# Altium footprint library 常用元件.PcbLib: 186 footprints (part 3 of 12)
Each footprint in its own frame and in the unit in brackets; x right, y up, seen from the top. Pads: shape width x height; smd on the part's side, far side on the other; paste and mask are expansions set on the pad; w line width, h text height; cw(c..) or ccw(c..) is an arc to the next point about the centre after c.
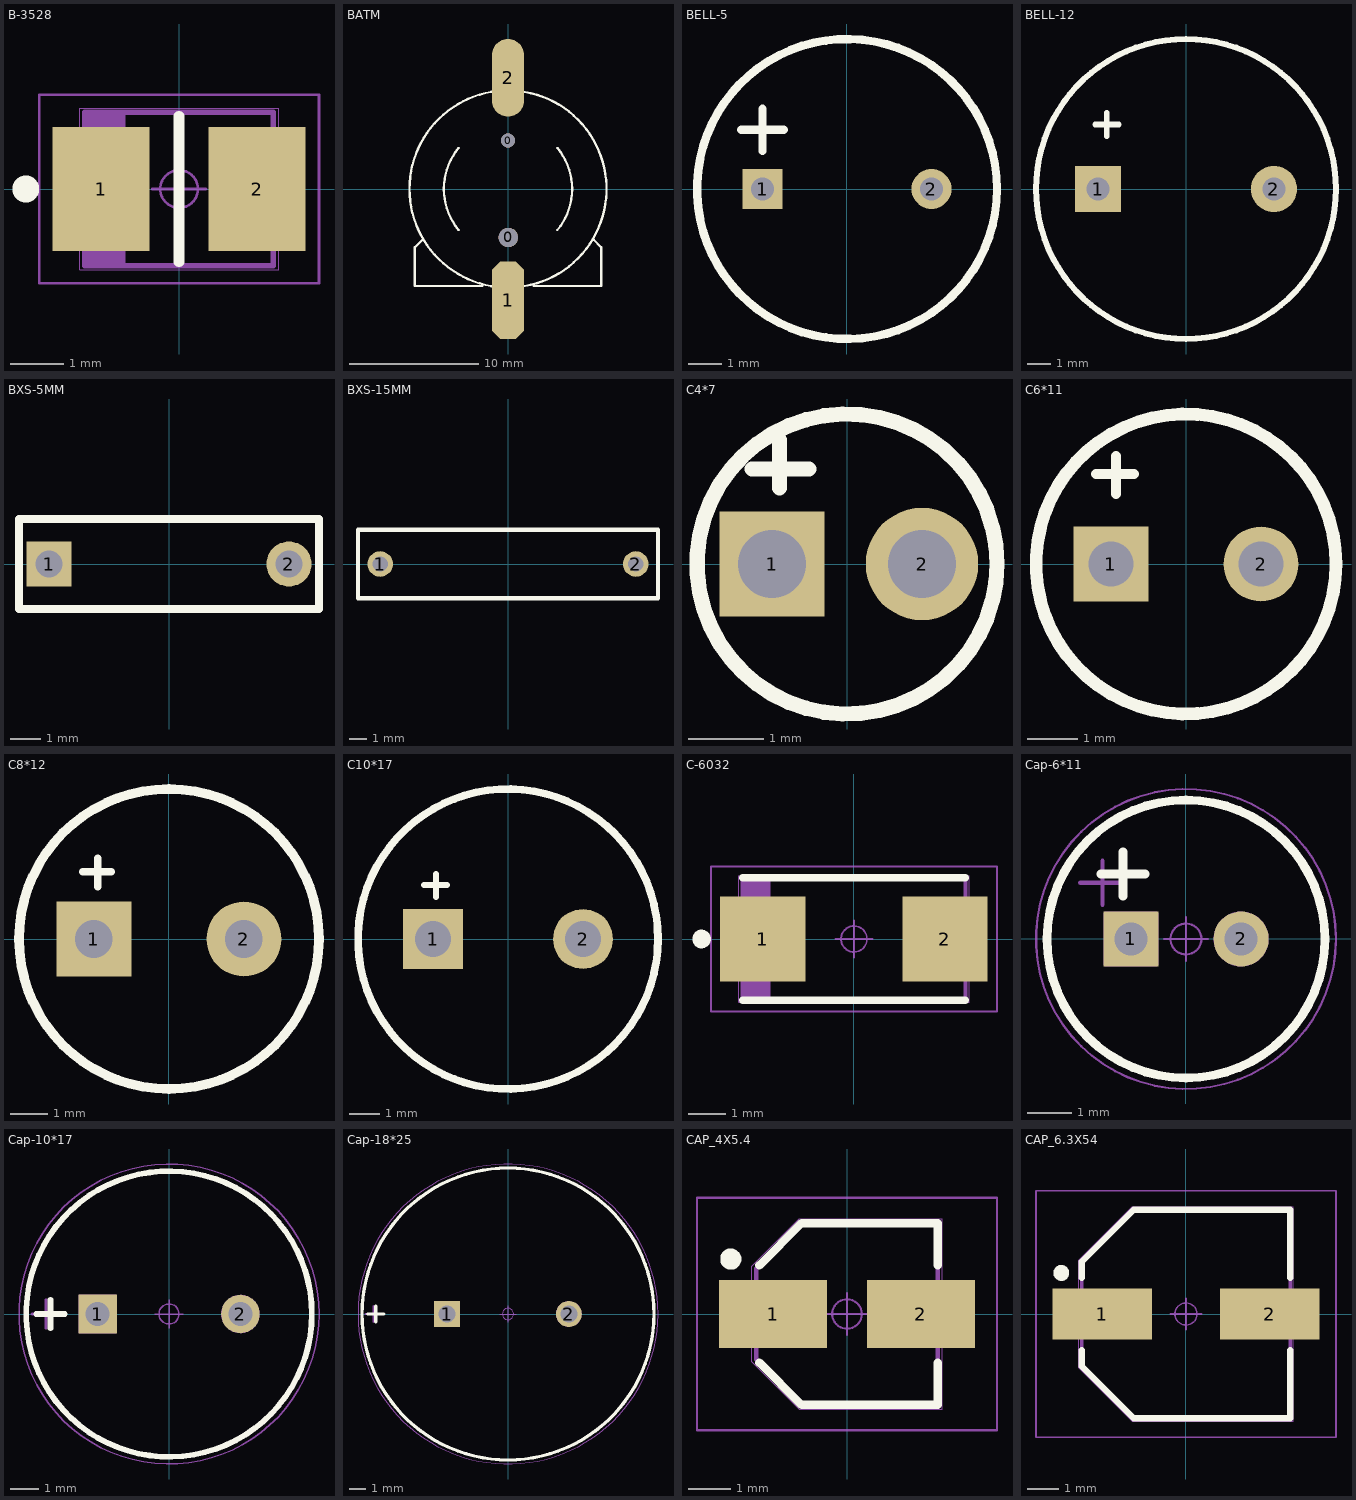
[diagram p2: the footprints below, top view; thin cyan lines are the x and y axes]

## B-3528 [mm]
pads (2):
  rect 1.8x2.3 smd: 1(-1.45,0) 2(1.45,0)
Top Overlay:
  circle w0.25: c-2.85,0 r0.125
  lines w0.2: 0,-1.35 0,1.35
Mechanical 1:
  lines w0.1: -1.65,-1.425 -1.65,1.425 ; -1.55,-1.425 -1.55,1.425 ; -1.45,-1.425 -1.45,1.425 ; -1.35,-1.425 -1.35,1.425 ; -1.25,-1.425 -1.25,1.425 ; -1.15,-1.425 -1.15,1.425 ; -1.05,-1.425 -1.05,1.425 ; -1.75,-1.425 1.75,-1.425 1.75,1.425 -1.75,1.425 -1.75,-1.425
  text "C1" at -0.087,-0.45 h0.75
Mechanical 16:
  circle w0.05: c0,0 r0.35
  lines w0.001: -1.85,-1.5 1.85,-1.5 1.85,1.5 -1.85,1.5 -1.85,-1.5
  lines w0.05: -0.5,0 0.5,0 ; 0,-0.5 0,0.5 ; -2.6,-1.75 2.6,-1.75 2.6,1.75 -2.6,1.75 -2.6,-1.75

## BATM [mm] "CR1220"
pads (4):
  round 1.1 hole 1.1 unplated: 0(-0.012,3.75)
  round 1.5 hole 1.5 unplated: 0(0.012,-3.75)
  oct 2.5x6 smd: 1(-0.012,-8.6)
  oval 2.5x6 smd: 2(-0.012,8.6)
Top Overlay:
  lines w0.178: -6.612,-3.9 -7.212,-4.5 -7.212,-7.5 -2.012,-7.5 ; -3.827,-3.169 cw(c-0.013,0) -3.825,3.172 ; -0.846,-7.574 cw(c-0.013,0) -7.633,0 cw(c-0.013,0) -0.846,7.574 ; 0.821,-7.574 ccw(c-0.013,0) 0.821,7.574 ; 1.987,-7.5 7.187,-7.5 7.187,-4.5 6.612,-3.925 ; 3.797,-3.175 ccw(c-0.013,0) 3.8,3.172
3D body: height 4.14, standoff -0.8, extent -7.518,-9.148 7.478,9.352

## BELL-5 [mm] "蜂鸣器"
pads (2):
  rect 1.2x1.2 hole 0.7: 1(-2.54,0)
  round 1.2 hole 0.7: 2(2.54,0)
Top Overlay:
  circle w0.254: c0,0 r4.51
  lines w0.254: -3.175,1.778 -1.905,1.778 ; -2.54,1.143 -2.54,2.413
3D body: height 5, standoff -1, extent -4.424,-4.5 4.576,4.5

## BELL-12 [mm] "脚距7.6，外径12的蜂鸣器"
pads (2):
  rect 2x2 hole 1: 1(-3.81,0)
  round 2 hole 1: 2(3.81,0)
Top Overlay:
  circle w0.254: c0,0 r6.5
  lines w0.245: -3.937,2.794 -2.921,2.794 ; -3.429,2.286 -3.429,3.302
3D body: height 9.3, standoff -3.5, extent -6.127,-6.203 5.873,5.797

## BXS-5MM [mm]
pads (2):
  rect 1.5x1.5 hole 0.9: 1(-4,0)
  round 1.5 hole 0.9: 2(4,0)
Top Overlay:
  lines w0.254: -5,-1.5 5,-1.5 5,1.5 -5,1.5 -5,-1.5

## BXS-15MM [mm]
pads (2):
  round 1.5 hole 0.9: 1(-7.5,0) 2(7.5,0)
Top Overlay:
  lines w0.254: -8.8,-2 -8.8,2 8.8,2 8.8,-2 -8.8,-2

## C4*7 [mm]
pads (2):
  rect 1.4x1.4 hole 0.9: 1(-1,0)
  round 1.5 hole 0.9: 2(1,0)
Top Overlay:
  circle w0.203: c0,0 r2
  lines w0.2: -1.27,1.27 -0.508,1.27 ; -0.9,1.016 -0.9,1.651

## C6*11 [mm]
pads (2):
  rect 1.5x1.5 hole 0.9: 1(-1.5,0)
  round 1.5 hole 0.9: 2(1.5,0)
Top Overlay:
  circle w0.254: c0,0 r3
  lines w0.2: -1.8,1.8 -1.038,1.8 ; -1.4,1.397 -1.4,2.159

## C8*12 [mm]
pads (2):
  rect 2x2 hole 1: 1(-2,0)
  round 2 hole 1: 2(2,0)
Top Overlay:
  circle w0.254: c0,0 r4
  lines w0.2: -2.3,1.8 -1.538,1.8 ; -1.9,1.397 -1.9,2.159

## C10*17 [mm]
pads (2):
  rect 2x2 hole 1.2: 1(-2.5,0)
  round 2 hole 1.2: 2(2.5,0)
Top Overlay:
  circle w0.254: c0,0 r5
  lines w0.2: -2.8,1.8 -2.038,1.8 ; -2.4,1.397 -2.4,2.159

## C-6032 [mm]
pads (2):
  rect 2.3x2.3 smd: 1(-2.45,0) 2(2.45,0)
Top Overlay:
  circle w0.25: c-4.1,0 r0.125
  lines w0.2: -3,-1.65 3,-1.65 ; -3,1.65 3,1.65
Mechanical 1:
  lines w0.1: -2.9,-1.625 -2.9,1.625 ; -2.8,-1.625 -2.8,1.625 ; -2.7,-1.625 -2.7,1.625 ; -2.6,-1.625 -2.6,1.625 ; -2.5,-1.625 -2.5,1.625 ; -2.4,-1.625 -2.4,1.625 ; -2.3,-1.625 -2.3,1.625 ; -3,-1.625 -3,1.625 3,1.625 3,-1.625 -3,-1.625
  text "C1" at -0.537,-0.45 h0.75
Mechanical 16:
  circle w0.05: c0,0 r0.35
  lines w0.001: -3.1,-1.7 -3.1,1.7 3.1,1.7 3.1,-1.7 -3.1,-1.7
  lines w0.05: -0.5,0 0.5,0 ; 0,-0.5 0,0.5 ; -3.85,-1.95 -3.85,1.95 3.85,1.95 3.85,-1.95 -3.85,-1.95

## Cap-6*11 [mm]
pads (2):
  rect 1.25x1.25 hole 0.75: 1(-1.25,0)
  round 1.25 hole 0.75: 2(1.25,0)
Top Overlay:
  circle w0.2: c0,0 r3.15
  lines w0.2: -1.925,1.475 -0.925,1.475 ; -1.425,0.975 -1.425,1.975
Mechanical 15:
  circle w0.1: c1.25,0 r0.575
  circle w0.1: c0,0 r3.15
  lines w0.1: -2.393,1.275 -1.393,1.275 ; -1.893,0.775 -1.893,1.775 ; -1.825,-0.575 -0.675,-0.575 -0.675,0.575 -1.825,0.575 -1.825,-0.575
Mechanical 16:
  circle w0.1: c1.25,0 r0.575
  circle w0.001: c0,0 r3.15
  circle w0.05: c0,0 r0.35
  circle w0.05: c0,0 r3.4
  lines w0.05: -0.5,0 0.5,0 ; 0,-0.5 0,0.5
  lines w0.1: -1.825,-0.575 -0.675,-0.575 -0.675,0.575 -1.825,0.575 -1.825,-0.575

## Cap-10*17 [mm]
pads (2):
  rect 1.35x1.35 hole 0.85: 1(-2.5,0)
  round 1.35 hole 0.85: 2(2.5,0)
Top Overlay:
  circle w0.2: c0,0 r5
  lines w0.2: -4.65,0 -3.65,0 ; -4.15,-0.5 -4.15,0.5
Mechanical 15:
  circle w0.1: c0,0 r5
  circle w0.1: c2.5,0 r0.625
  lines w0.1: -4.8,0 -3.8,0 ; -4.3,-0.5 -4.3,0.5 ; -3.125,-0.625 -3.125,0.625 -1.875,0.625 -1.875,-0.625 -3.125,-0.625
Mechanical 16:
  circle w0.05: c0,0 r5.25
  circle w0.05: c0,0 r0.35
  circle w0.001: c0,0 r5
  circle w0.1: c2.5,0 r0.625
  lines w0.05: -0.5,0 0.5,0 ; 0,-0.5 0,0.5
  lines w0.1: -3.125,-0.625 -3.125,0.625 -1.875,0.625 -1.875,-0.625 -3.125,-0.625

## Cap-18*25 [mm]
pads (2):
  rect 1.6x1.6 hole 1.05: 1(-3.75,0)
  round 1.6 hole 1.05: 2(3.75,0)
Top Overlay:
  circle w0.2: c0,0 r9
  lines w0.2: -8.65,0 -7.65,0 ; -8.15,-0.5 -8.15,0.5
Mechanical 15:
  circle w0.1: c3.75,0 r0.75
  circle w0.1: c0,0 r9
  lines w0.1: -8.8,0 -7.8,0 ; -8.3,-0.5 -8.3,0.5 ; -4.5,-0.75 -3,-0.75 -3,0.75 -4.5,0.75 -4.5,-0.75
Mechanical 16:
  circle w0.1: c3.75,0 r0.75
  circle w0.001: c0,0 r9
  circle w0.05: c0,0 r0.35
  circle w0.05: c0,0 r9.25
  lines w0.05: -0.5,0 0.5,0 ; 0,-0.5 0,0.5
  lines w0.1: -4.5,-0.75 -3,-0.75 -3,0.75 -4.5,0.75 -4.5,-0.75

## CAP_4X5.4 [mm]
pads (2):
  rect 2.55x1.6 smd: 1(-1.75,0) 2(1.75,0)
Top Overlay:
  circle w0.25: c-2.75,1.3 r0.125
  lines w0.2: -2.075,-1.15 -1.075,-2.15 2.15,-2.15 2.15,-1.15 ; -2.075,1.15 -1.075,2.15 2.15,2.15 2.15,1.15
Mechanical 1:
  lines w0.1: -2.15,-1.075 -2.15,1.075 -1.075,2.15 2.15,2.15 2.15,-2.15 -1.075,-2.15 -2.15,-1.075
  text "C1" at -0.537,-0.45 h0.75
Mechanical 16:
  circle w0.05: c0,0 r0.35
  lines w0.001: -2.25,-1.125 -2.25,1.125 -1.125,2.25 2.25,2.25 2.25,-2.25 -1.125,-2.25 -2.25,-1.125
  lines w0.05: -0.5,0 0.5,0 ; 0,-0.5 0,0.5 ; -3.55,-2.75 -3.55,2.75 3.55,2.75 3.55,-2.75 -3.55,-2.75

## CAP_6.3X54 [mm]
pads (2):
  rect 3.15x1.6 smd: 1(-2.65,0) 2(2.65,0)
Top Overlay:
  circle w0.25: c-3.95,1.3 r0.125
  lines w0.2: -3.3,-1.15 -3.3,-1.65 -1.65,-3.3 3.3,-3.3 3.3,-1.15 ; -3.3,1.15 -3.3,1.65 -1.65,3.3 3.3,3.3 3.3,1.15
Mechanical 1:
  lines w0.1: -3.3,-1.65 -1.65,-3.3 3.3,-3.3 3.3,3.3 -1.65,3.3 -3.3,1.65 -3.3,-1.65
  text "C1" at -0.537,-0.45 h0.75
Mechanical 16:
  circle w0.05: c0,0 r0.35
  lines w0.001: -3.4,-1.7 -1.7,-3.4 3.4,-3.4 3.4,3.4 -1.7,3.4 -3.4,1.7 -3.4,-1.7
  lines w0.05: -0.5,0 0.5,0 ; 0,-0.5 0,0.5 ; -4.75,-3.9 4.75,-3.9 4.75,3.9 -4.75,3.9 -4.75,-3.9